# EAGLE library part ESP32-DEVKIT_DOIT (library ESP32-DEVKIT)
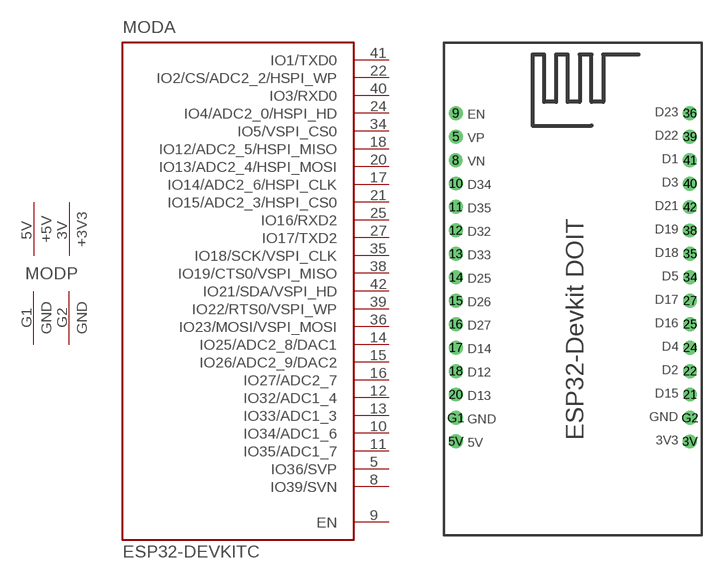
[diagram p1: symbol with the pads of ESP32-DEVKIT_DOIT; footprint ESP32-DEVKIT_DOIT]

Designator prefix MOD; gates A=ESP32-DEVKIT_DOIT P=PWR2GND2

## ESP32-DEVKIT_DOIT  [ESP32-DEVKIT_DOIT]
3V  P:+3V3  pwr
5  A:IO36/SVP
5V  P:+5V  pwr
8  A:IO39/SVN
9  A:EN
10  A:IO34/ADC1_6
11  A:IO35/ADC1_7
12  A:IO32/ADC1_4
13  A:IO33/ADC1_3
14  A:IO25/ADC2_8/DAC1
15  A:IO26/ADC2_9/DAC2
16  A:IO27/ADC2_7
17  A:IO14/ADC2_6/HSPI_CLK
18  A:IO12/ADC2_5/HSPI_MISO
20  A:IO13/ADC2_4/HSPI_MOSI
21  A:IO15/ADC2_3/HSPI_CS0
22  A:IO2/CS/ADC2_2/HSPI_WP
24  A:IO4/ADC2_0/HSPI_HD
25  A:IO16/RXD2
27  A:IO17/TXD2
34  A:IO5/VSPI_CS0
35  A:IO18/SCK/VSPI_CLK
36  A:IO23/MOSI/VSPI_MOSI
38  A:IO19/CTS0/VSPI_MISO
39  A:IO22/RTS0/VSPI_WP
40  A:IO3/RXD0
41  A:IO1/TXD0
42  A:IO21/SDA/VSPI_HD
G1  P:GND  pwr
G2  P:GND  pwr

## Footprint ESP32-DEVKIT_DOIT (pad centres in mm)
drill 1: 3V 12.69,-16.52; 5 -12.7,16.51; 5V -12.7,-16.51; 8 -12.71,13.96; 9 -12.7,19.05; 10 -12.7,11.43; 11 -12.7,8.89; 12 -12.7,6.35; 13 -12.7,3.81; 14 -12.7,1.27; 15 -12.7,-1.27; 16 -12.7,-3.81; 17 -12.7,-6.35; 18 -12.7,-8.89; 20 -12.7,-11.43; 21 12.7,-11.43; 22 12.7,-8.89; 24 12.7,-6.35; 25 12.7,-3.81; 27 12.7,-1.27; 34 12.7,1.27; 35 12.7,3.81; 36 12.69,19.04; 38 12.69,6.34; 39 12.69,16.5; 40 12.69,11.42; 41 12.69,13.96; 42 12.69,8.88; G1 -12.7,-13.97; G2 12.7,-13.97